# Altium schematic symbol library aptina-sensors.SchLib: 3 symbols
Pins are listed as number, name and electrical type; pins without a type are passive.

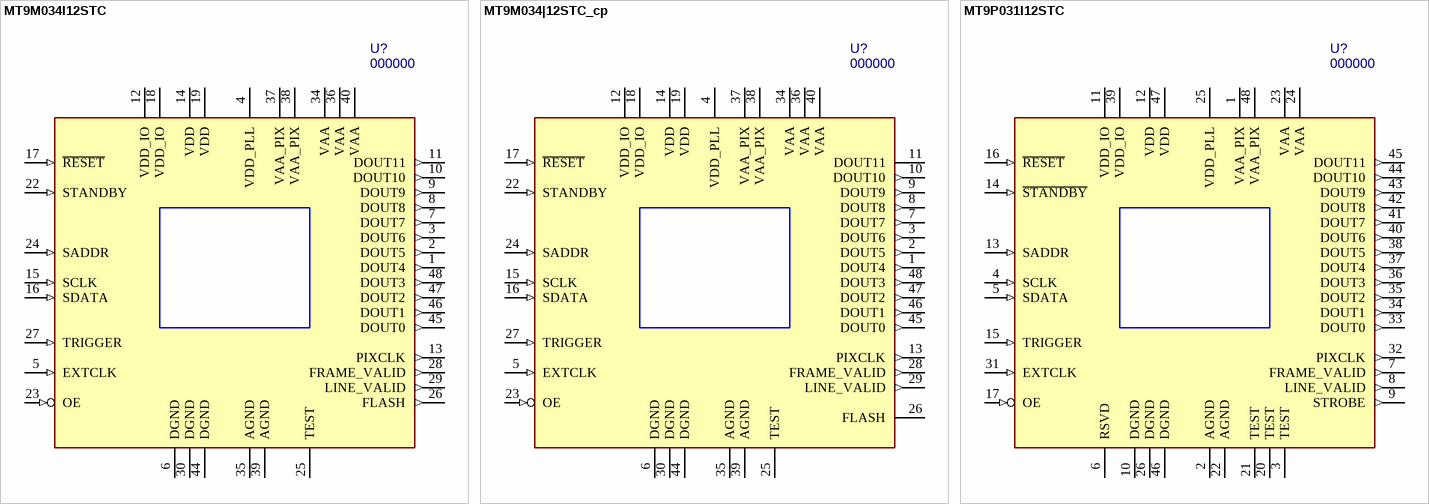
[diagram p0: symbols MT9M034I12STC to MT9P031I12STC]

## MT9M034I12STC
designator U?, comment 000000
1/3-Inch 5Mp CMOS Digital Image Sensor; Value: MT9M034I12STC; Package: *; PN: 000000; ExtraInfo: *
footprint 48-iLCC - duplicate (QFN, 48-Leads, Body 10.1x10.1mm (max), Pitch 0.70mm, IPC Low Density)
pins: 1 DOUT4 (out), 2 DOUT5 (out), 3 DOUT6 (out), 4 VDD_PLL (power), 5 EXTCLK (in), 6 DGND (power), 7 DOUT7 (out), 8 DOUT8 (out), 9 DOUT9 (out), 10 DOUT10 (out), 11 DOUT11 (out), 12 VDD_IO (power), 13 PIXCLK (out), 14 VDD (power), 15 SCLK (in), 16 SDATA (in), 17 ~{RESET} (in), 18 VDD_IO (power), 19 VDD (power), 22 STANDBY (in), 23 OE (in), 24 SADDR (in), 25 TEST, 26 FLASH (out), 27 TRIGGER (in), 28 FRAME_VALID (out), 29 LINE_VALID (out), 30 DGND (power), 34 VAA (power), 35 AGND (power), 36 VAA (power), 37 VAA_PIX (power), 38 VAA_PIX (power), 39 AGND (power), 40 VAA (power), 44 DGND (power), 45 DOUT0 (out), 46 DOUT1 (out), 47 DOUT2 (out), 48 DOUT3 (out)

## MT9M034|12STC_cp
designator U?, comment 000000
1/3-Inch 5Mp CMOS Digital Image Sensor; Value: MT9M034I12STC_cp; Package: *; PN: 000000; ExtraInfo: *
footprint 48-iLCC (QFN, 48-Leads, Body 10.1x10.1mm (max), Pitch 0.70mm, IPC Low Density)
pins: 1 DOUT4 (out), 2 DOUT5 (out), 3 DOUT6 (out), 4 VDD_PLL (power), 5 EXTCLK (in), 6 DGND (power), 7 DOUT7 (out), 8 DOUT8 (out), 9 DOUT9 (out), 10 DOUT10 (out), 11 DOUT11 (power), 12 VDD_IO (power), 13 PIXCLK (out), 14 VDD (power), 15 SCLK (in), 16 SDATA (in), 17 ~{RESET} (in), 18 VDD_IO (power), 19 VDD (power), 22 STANDBY (in), 23 OE (in), 24 SADDR (in), 25 TEST (power), 26 FLASH, 27 TRIGGER (in), 28 FRAME_VALID (out), 29 LINE_VALID (out), 30 DGND (power), 34 VAA (power), 35 AGND (power), 36 VAA (power), 37 VAA_PIX (power), 38 VAA_PIX (power), 39 AGND (power), 40 VAA (power), 44 DGND (power), 45 DOUT0 (out), 46 DOUT1 (out), 47 DOUT2 (out), 48 DOUT3 (out)

## MT9P031I12STC
designator U?, comment 000000
1/2.5-Inch 5Mp CMOS Digital Image Sensor; Value: MT9P031I12STC; Package: *; PN: 000000; ExtraInfo: *
footprint 48-iLCC (QFN, 48-Leads, Body 10.1x10.1mm (max), Pitch 0.70mm, IPC Low Density)
pins: 1 VAA_PIX (power), 2 AGND (power), 3 TEST, 4 SCLK (in), 5 SDATA (in), 6 RSVD, 7 FRAME_VALID (out), 8 LINE_VALID (out), 9 STROBE (out), 10 DGND (power), 11 VDD_IO (power), 12 VDD (power), 13 SADDR (in), 14 ~{STANDBY} (in), 15 TRIGGER (in), 16 ~{RESET} (in), 17 OE (in), 20 TEST, 21 TEST, 22 AGND (power), 23 VAA (power), 24 VAA (power), 25 VDD_PLL (power), 26 DGND (power), 31 EXTCLK (in), 32 PIXCLK (out), 33 DOUT0 (out), 34 DOUT1 (out), 35 DOUT2 (out), 36 DOUT3 (out), 37 DOUT4 (out), 38 DOUT5 (out), 39 VDD_IO (power), 40 DOUT6 (out), 41 DOUT7 (out), 42 DOUT8 (out), 43 DOUT9 (out), 44 DOUT10 (out), 45 DOUT11 (out), 46 DGND (power), 47 VDD (power), 48 VAA_PIX (power)